# Altium integrated library Analog Devices Clock Generation and Distribution.IntLib: 120 symbols (part 3 of 18)
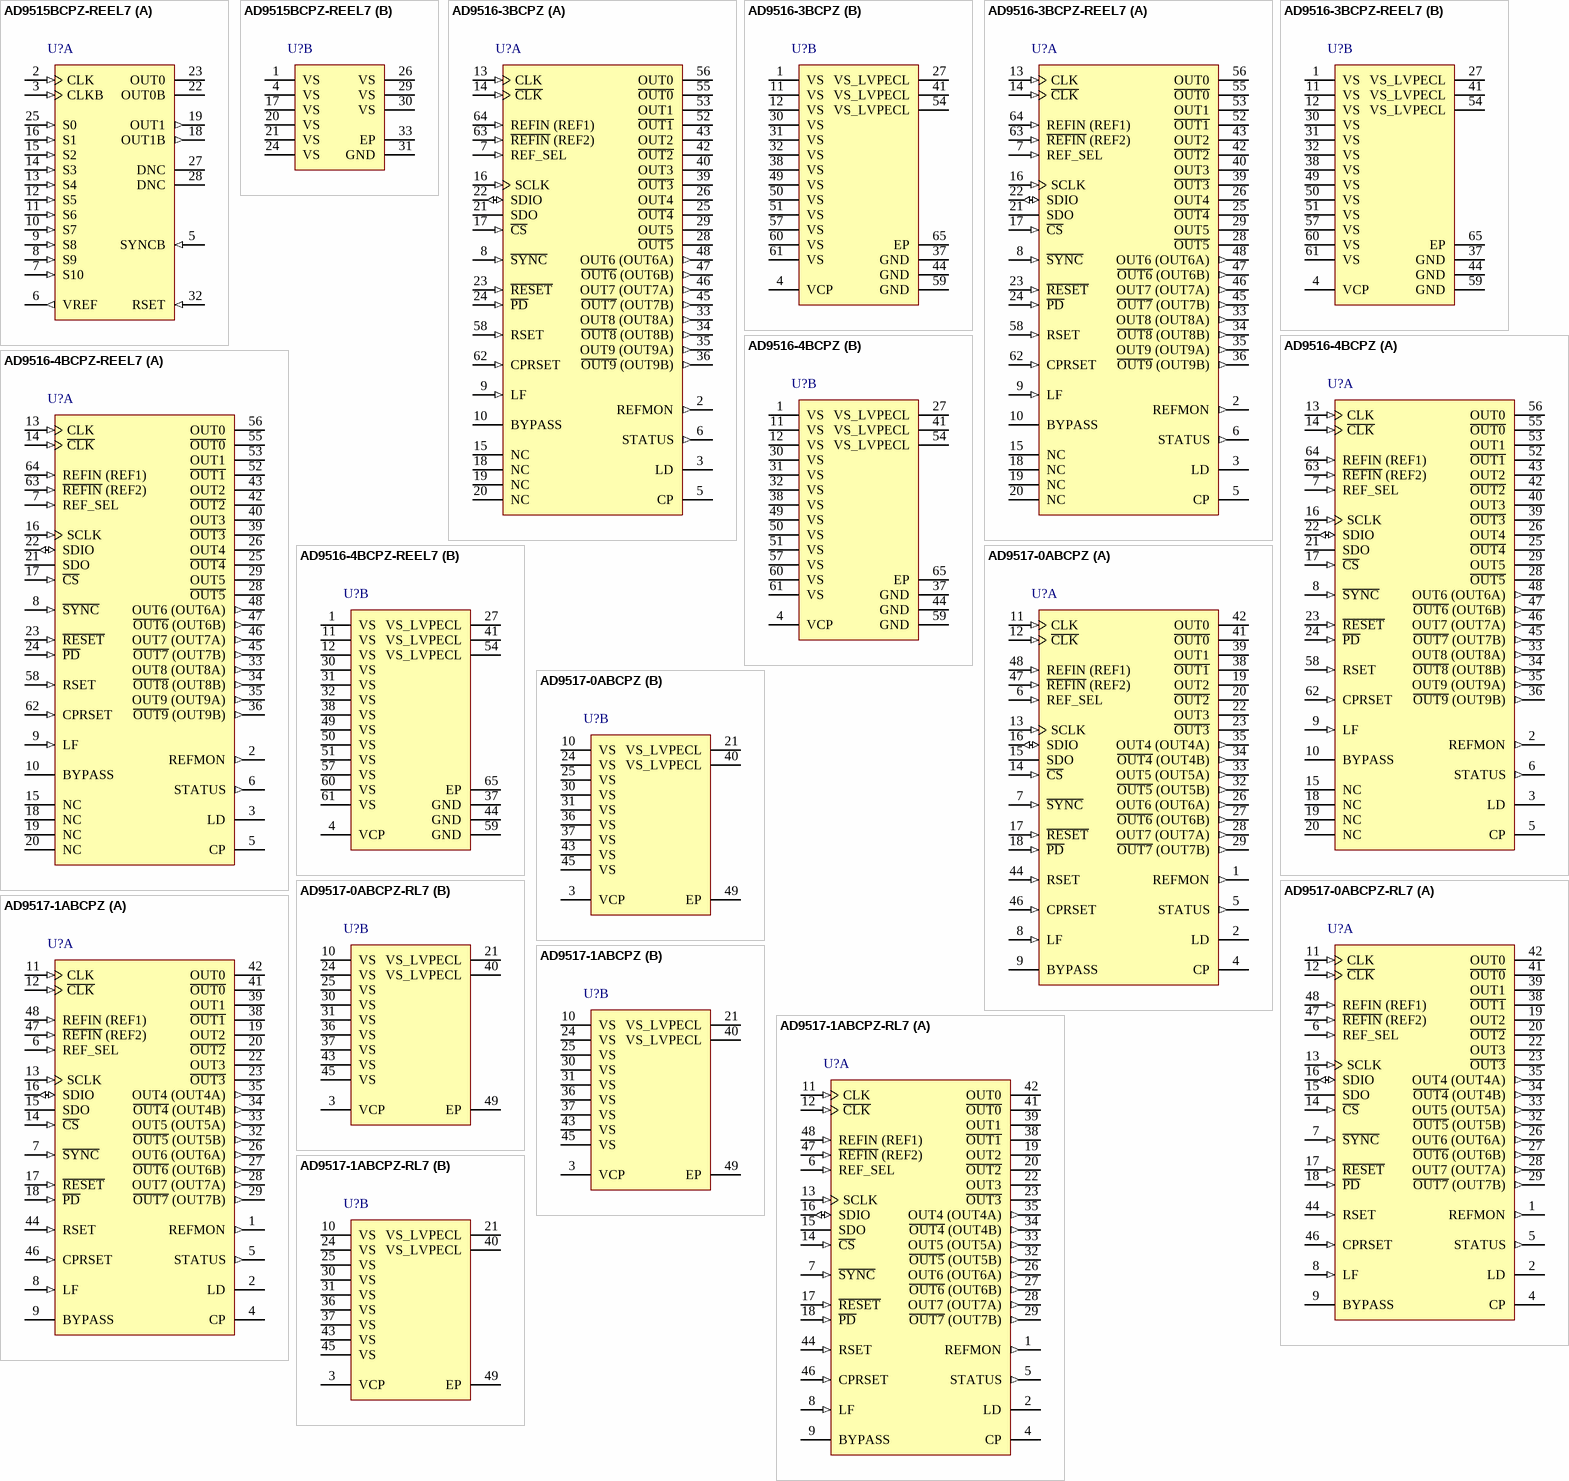
[diagram p14: symbols AD9515BCPZ-REEL7 to AD9517-1ABCPZ-RL7]

## AD9516-4BCPZ-REEL7
designator U?
14 Outputs Clock Generator with Integrated 1.6 GHz VCO, 3.3 V Supply, Industrial, 64-pin QFN (CP-64-4), Reel; Manufacturer: Analog Devices; PartNumber: AD9516-4BCPZ-REEL7; # of Inputs: 2; # of Outputs: 14; Supply Voltage (V): 3.3; I/O Interface: Serial; Max f-out: 1.8 GHz; On-Chip VCO or DCO: Yes; Output Logic: CMOS, LVDS, LVPECL; DatasheetVersion: Rev. B; PackageVersion: 06-12-2012-B, 06/2012; PackageReference: CP-64-4; PackageDescription: 64-Pin Lead Frame Chip Scale Package, Body 9 x 9 mm, Pitch 0.5 mm; Supplier 1: Digi-Key; Supplier Part Number 1: AD9516-4BCPZ-REEL7-ND; Supplier 2: Mouser; Supplier Part Number 2: 584-AD9516-4BCPZR7; Packing: Reel; Mounting Technology: Surface Mount; Code_JEDEC: MO-220-VMMD-4; ComponentLink1Description: Manufacturer URL; ComponentLink1URL: http://www.analog.com/en/index.html; ComponentLink2Description: Datasheet; ComponentLink2URL: http://www.analog.com/static/imported-files/data_sheets/AD9516-4.pdf; ComponentLink3Description: Package Specification; ComponentLink3URL: http://www.analog.com/static/imported-files/packages/PKG_PDF/LFCSP(CP)/CP_64_4.pdf; ComponentLink4Description: Product URL; ComponentLink4URL: http://www.analog.com/en/clock-and-timing/clock-generation-and-distribution/ad9516-4/products/product.html; ComponentLink5Description: Reference Circuit; ComponentLink5URL: http://www.analog.com/en/clock-and-timing/clock-generation-and-distribution/ad9516-4/products/product.html#product-recommendations
footprint ADI-CP-64-4_N (QFN, 64-Leads, Body 9x9mm, Pitch 0.5mm, Thermal Pad 6.2x6.2mm, IPC Medium Density)
footprint ADI-CP-64-4_L (QFN, 64-Leads, Body 9x9mm, Pitch 0.5mm, Thermal Pad 6.2x6.2mm, IPC High Density)
footprint ADI-CP-64-4_M (QFN, 64-Leads, Body 9x9mm, Pitch 0.5mm, Thermal Pad 6.2x6.2mm, IPC Low Density)
part A pins: 2 REFMON (out) "Reference Monitor (Output). This pin has multiple selectable outputs; see Table 54, Register 0x01B.", 3 LD (hiz) "Lock Detect (Output). This pin has multiple selectable outputs; see Table 54, Register 0x1A", 5 CP (hiz) "Charge Pump (Output). Connects to external loop filter.", 6 STATUS (out) "Status (Output). This pin has multiple selectable outputs; see Table 54, Register 0x017. Reference Select. Selects REF1 (low) or REF2 (high). This pin has an internal 30 k ohm pull-down resistor.", 7 REF_SEL (in) "Reference Select. Selects REF1 (low) or REF2 (high). This pin has an internal 30 k ohm pull-down resistor", 8 ~{SYNC} (in) "Manual Synchronizations and Manual Holdover. This pin initiates a manual synchronization and is also used for manual holdover. Active low. This pin has an internal 30 k ohm pull-up resistor", 9 LF (in) "Loop Filter (Input). Connects to VCO control voltage node internally. This pin has 31 pF of internal capacitance to ground, which may influence the loop filter design for large (>500 kHz) loop bandwidths.", 10 BYPASS "This pin is for bypassing the LDO to ground with a capacitor", 13 CLK (in) "Along with C\L\K\, this is the differential input for the clock distribution section.", 14 ~{CLK} (in) "Along with CLK, this is the differential input for the clock distribution section", 15 NC "No Connect. Do not connect to this pin.", 16 SCLK (in) "Serial Control Port Data Clock Signal.", 17 ~{CS} (in) "Serial Control Port Chip Select, Active Low. This pin has an internal 30 k ohm pull-up resistor.", 18 NC "No Connect. Do not connect to this pin.", 19 NC "No Connect. Do not connect to this pin.", 20 NC "No Connect. Do not connect to this pin.", 21 SDO (hiz) "Serial Control Port Unidirectional Serial Data Out.", 22 SDIO (io) "Serial Control Port Bidirectional Serial Data In/Out.", 23 ~{RESET} (in) "Chip Reset, Active Low. This pin has an internal 30 k ohm pull-up resistor.", 24 ~{PD} (in) "Chip Power-Down, Active Low. This pin has an internal 30 k ohm pull-up resistor.", 25 ~{OUT4} (hiz) "LVPECL Output; One Side of a Differential LVPECL Output.", 26 OUT4 (hiz) "LVPECL Output; One Side of a Differential LVPECL Output.", 28 ~{OUT5} (hiz) "LVPECL Output; One Side of a Differential LVPECL Output.", 29 OUT5 (hiz) "LVPECL Output; One Side of a Differential LVPECL Output.", 33 OUT8 (OUT8A) (out) "LVDS/CMOS Output; One Side of a Differential LVDS Output, or a Single-Ended CMOS Output.", 34 ~{OUT8} (OUT8B) (out) "LVDS/CMOS Output; One Side of a Differential LVDS Output, or a Single-Ended CMOS Output.", 35 OUT9 (OUT9A) (out) "LVDS/CMOS Output; One Side of a Differential LVDS Output, or a Single-Ended CMOS Output.", 36 ~{OUT9} (OUT9B) (out) "LVDS/CMOS Output; One Side of a Differential LVDS Output, or a Single-Ended CMOS Output.", 39 ~{OUT3} (hiz) "LVPECL Output; One Side of a Differential LVPECL Output", 40 OUT3 (hiz) "LVPECL Output; One Side of a Differential LVPECL Output", 42 ~{OUT2} (hiz) "LVPECL Output; One Side of a Differential LVPECL Output", 43 OUT2 (hiz) "LVPECL Output; One Side of a Differential LVPECL Output", 45 ~{OUT7} (OUT7B) (out) "LVDS/CMOS Output; One Side of a Differential LVDS Output, or a Single-Ended CMOS Output.", 46 OUT7 (OUT7A) (out) "LVDS/CMOS Output; One Side of a Differential LVDS Output, or a Single-Ended CMOS Output.", 47 ~{OUT6} (OUT6B) (out) "LVDS/CMOS Output; One Side of a Differential LVDS Output, or a Single-Ended CMOS Output.", 48 OUT6 (OUT6A) (out) "LVDS/CMOS Output; One Side of a Differential LVDS Output, or a Single-Ended CMOS Output.", 52 ~{OUT1} (hiz) "LVPECL Output; One Side of a Differential LVPECL Output.", 53 OUT1 (hiz) "LVPECL Output; One Side of a Differential LVPECL Output.", 55 ~{OUT0} (hiz) "LVPECL Output; One Side of a Differential LVPECL Output.", 56 OUT0 (hiz) "LVPECL Output; One Side of a Differential LVPECL Output", 58 RSET (in) "A resistor connected to this pin sets internal bias currents. Nominal value = 4.12 k ohm.", 62 CPRSET (in) "A resistor connected to this pin sets the CP current range. Nominal value = 5.1 k ohm.", 63 ~{REFIN} (REF2) (in) "Along with REFIN, this pin is the differential input for the PLL reference. Alternatively, this pin is a single-ended input for REF2", 64 REFIN (REF1) (in) "Along with R\E\F\I\N\, this pin is the differential input for the PLL reference. Alternatively, this pin is a single-ended input for REF1."
part B pins: 1 VS (power) "3.3 V Power Pins.", 4 VCP (power) "Power Supply for Charge Pump (CP); VS =< VCP =< 5.0 V.", 11 VS (power) "3.3 V Power Pins.", 12 VS (power) "3.3 V Power Pins.", 27 VS_LVPECL (power) "Extended Voltage 2.5 V to 3.3 V LVPECL Power Pins.", 30 VS (power) "3.3 V Power Pins.", 31 VS (power) "3.3 V Power Pins.", 32 VS (power) "3.3 V Power Pins.", 37 GND (power) "Ground Pins, Including External Paddle (EPAD). The external paddle on the bottom of the package must be connected to ground for proper operation", 38 VS (power) "3.3 V Power Pins.", 41 VS_LVPECL (power) "Extended Voltage 2.5 V to 3.3 V LVPECL Power Pins.", 44 GND (power) "Ground Pins, Including External Paddle (EPAD). The external paddle on the bottom of the package must be connected to ground for proper operation", 49 VS (power) "3.3 V Power Pins.", 50 VS (power) "3.3 V Power Pins.", 51 VS (power) "3.3 V Power Pins.", 54 VS_LVPECL (power) "Extended Voltage 2.5 V to 3.3 V LVPECL Power Pins.", 57 VS (power) "3.3 V Power Pins.", 59 GND (power) "Ground Pins, Including External Paddle (EPAD). The external paddle on the bottom of the package must be connected to ground for proper operation", 60 VS (power) "3.3 V Power Pins.", 61 VS (power) "3.3 V Power Pins.", 65 EP (power) "Ground Pins, Including External Paddle (EPAD). The external paddle on the bottom of the package must be connected to ground for proper operation."

## AD9517-0ABCPZ
designator U?
12 Outputs Clock Generator with Integrated 2.8 GHz VCO, 3.3 V Supply, Industrial, 48-pin QFN (CP-48-8), Tray; Manufacturer: Analog Devices; PartNumber: AD9517-0ABCPZ; # of Inputs: 2; # of Outputs: 12; Supply Voltage (V): 3.3; I/O Interface: Serial; Max f-out: 2.95 GHz; On-Chip VCO or DCO: Yes; Output Logic: CMOS, LVDS, LVPECL; DatasheetVersion: Rev. D; PackageVersion: 06-06-2012-C, 06/2012; PackageReference: CP-48-8; PackageDescription: 48-Pin Lead Frame Chip Scale Package, Body 7 x 7 mm, Pitch 0.5 mm; Supplier 1: Digi-Key; Supplier Part Number 1: AD9517-0ABCPZ-ND; Supplier 2: Mouser; Supplier Part Number 2: 584-AD9517-0ABCPZ; Packing: Tray; Mounting Technology: Surface Mount; Code_JEDEC: MO-220-VKKD-2; ComponentLink1Description: Manufacturer URL; ComponentLink1URL: http://www.analog.com/en/index.html; ComponentLink2Description: Datasheet; ComponentLink2URL: http://www.analog.com/static/imported-files/data_sheets/AD9517-0.pdf; ComponentLink3Description: Package Specification; ComponentLink3URL: http://www.analog.com/static/imported-files/packages/PKG_PDF/LFCSP(CP)/CP_48_8.pdf; ComponentLink4Description: Product URL; ComponentLink4URL: http://www.analog.com/en/clock-and-timing/clock-generation-and-distribution/ad9517-0/products/product.html
footprint ADI-CP-48-8_N (QFN, 48-Leads, Body 7x7mm, Pitch 0.5mm, Thermal Pad 5.5x5.5mm, IPC Medium Density)
footprint ADI-CP-48-8_L (QFN, 48-Leads, Body 7x7mm, Pitch 0.5mm, Thermal Pad 5.5x5.5mm, IPC High Density)
footprint ADI-CP-48-8_M (QFN, 48-Leads, Body 7x7mm, Pitch 0.5mm, Thermal Pad 5.5x5.5mm, IPC Low Density)
part A pins: 1 REFMON (out) "Reference Monitor (Output). This pin has multiple selectable outputs; see Table 54, Register 0x01B.", 2 LD (hiz) "Lock Detect (Output). This pin has multiple selectable outputs; see Table 54, Register 0x01A.", 4 CP (hiz) "Charge Pump (Output). Connects to external loop filter.", 5 STATUS (out) "Status (Output). This pin has multiple selectable outputs; see Table 54, Register 0x017.", 6 REF_SEL (in) "Reference Select. Selects REF1 (low) or REF2 (high). This pin has an internal 30 K ohm pull-down resistor", 7 ~{SYNC} (in) "Manual Synchronizations and Manual Holdover. This pin initiates a manual synchronization and is also used for manual holdover. Active low. This pin has an internal 30 K ohm pull-up resistor.", 8 LF (in) "Loop Filter (Input). Connects to VCO control voltage node internally. This pin has 31 pF of internal capacitance to ground, which may influence the loop filter design for large loop bandwidths.", 9 BYPASS "This pin is for bypassing the LDO to ground with a capacitor.", 11 CLK (in) "Along with C\L\K\, this is the self-biased differential input for the clock distribution section. This pin can be left floating if internal VCO is used.", 12 ~{CLK} (in) "Along with CLK, this is the self-biased differential input for the clock distribution section. This pin can be left floating if internal VCO is used.", 13 SCLK (in) "Serial Control Port Data Clock Signal.", 14 ~{CS} (in) "Serial Control Port Chip Select; Active Low. This pin has an internal 30 K ohm pull-up resistor.", 15 SDO (hiz) "Serial Control Port. Unidirectional serial data output.", 16 SDIO (io) "Serial Control Port. Bidirectional serial data input/output and unidirectional serial data input.", 17 ~{RESET} (in) "Chip Reset, Active Low. This pin has an internal 30 K ohm pull-up resistor.", 18 ~{PD} (in) "Chip Power Down, Active Low. This pin has an internal 30 K ohm pull-up resistor.", 19 OUT2 (hiz) "LVPECL Output; One Side of a Differential LVPECL Output.", 20 ~{OUT2} (hiz) "LVPECL Output; One Side of a Differential LVPECL Output.", 22 OUT3 (hiz) "LVPECL Output; One Side of a Differential LVPECL Output.", 23 ~{OUT3} (hiz) "LVPECL Output; One Side of a Differential LVPECL Output.", 26 OUT6 (OUT6A) (out) "LVDS/CMOS Output; One Side of a Differential LVDS Output or a Single-Ended CMOS Output.", 27 ~{OUT6} (OUT6B) (out) "LVDS/CMOS Output; One Side of a Differential LVDS Output or a Single-Ended CMOS Output.", 28 OUT7 (OUT7A) (out) "LVDS/CMOS Output; One Side of a Differential LVDS Output or a Single-Ended CMOS Output.", 29 ~{OUT7} (OUT7B) (out) "LVDS/CMOS Output; One Side of a Differential LVDS Output or a Single-Ended CMOS Output.", 32 ~{OUT5} (OUT5B) (out) "LVDS/CMOS Output; One Side of a Differential LVDS Output or a Single-Ended CMOS Output.", 33 OUT5 (OUT5A) (out) "LVDS/CMOS Output; One Side of a Differential LVDS Output or a Single-Ended CMOS Output.", 34 ~{OUT4} (OUT4B) (out) "LVDS/CMOS Output; One Side of a Differential LVDS Output or a Single-Ended CMOS Output.", 35 OUT4 (OUT4A) (out) "LVDS/CMOS Output; One Side of a Differential LVDS Output or a Single-Ended CMOS Output.", 38 ~{OUT1} (hiz) "LVPECL Output; One Side of a Differential LVPECL Output.", 39 OUT1 (hiz) "LVPECL Output; One Side of a Differential LVPECL Output.", 41 ~{OUT0} (hiz) "LVPECL Output; One Side of a Differential LVPECL Output.", 42 OUT0 (hiz) "LVPECL Output; One Side of a Differential LVPECL Output.", 44 RSET (in) "Resistor connected here sets internal bias currents. Nominal value = 4.12 K ohm.", 46 CPRSET (in) "Resistor connected here sets CP current range. Nominal value = 5.1 K ohm.", 47 ~{REFIN} (REF2) (in) "Along with REFIN, this is the self-biased differential input for the PLL reference. Alternatively, this pin is a single-ended input for REF2.", 48 REFIN (REF1) (in) "Along with R\E\F\I\N\, this is the self-biased differential input for the PLL reference. Alternatively, this pin is a single-ended input for REF1."
part B pins: 3 VCP (power) "Power Supply for Charge Pump (CP); VS =< VCP =< 5.0 V. This pin is usually 3.3 V for most applications; but if a 5 V external VCXO is used, this pin should be 5 V.", 10 VS (power) "3.3 V Power Pins.", 21 VS_LVPECL (power) "Extended Voltage 2.5 V to 3.3 V LVPECL Power Pins.", 24 VS (power) "3.3 V Power Pins.", 25 VS (power) "3.3 V Power Pins.", 30 VS (power) "3.3 V Power Pins.", 31 VS (power) "3.3 V Power Pins.", 36 VS (power) "3.3 V Power Pins.", 37 VS (power) "3.3 V Power Pins.", 40 VS_LVPECL (power) "Extended Voltage 2.5 V to 3.3 V LVPECL Power Pins.", 43 VS (power) "3.3 V Power Pins.", 45 VS (power) "3.3 V Power Pins.", 49 EP (power) "Ground. The external paddle on the bottom of the package must be connected to ground for proper operation."

## AD9517-0ABCPZ-RL7
designator U?
12 Outputs Clock Generator with Integrated 2.8 GHz VCO, 3.3 V Supply, Industrial, 48-pin QFN (CP-48-8), Reel; Manufacturer: Analog Devices; PartNumber: AD9517-0ABCPZ-RL7; # of Inputs: 2; # of Outputs: 12; Supply Voltage (V): 3.3; I/O Interface: Serial; Max f-out: 2.95 GHz; On-Chip VCO or DCO: Yes; Output Logic: CMOS, LVDS, LVPECL; DatasheetVersion: Rev. D; PackageVersion: 06-06-2012-C, 06/2012; PackageReference: CP-48-8; PackageDescription: 48-Pin Lead Frame Chip Scale Package, Body 7 x 7 mm, Pitch 0.5 mm; Supplier 1: Digi-Key; Supplier Part Number 1: AD9517-0ABCPZ-RL7-ND; Supplier 2: Mouser; Supplier Part Number 2: 584-AD9517-0ABCPZ-R7; Packing: Reel; Mounting Technology: Surface Mount; Code_JEDEC: MO-220-VKKD-2; ComponentLink1Description: Manufacturer URL; ComponentLink1URL: http://www.analog.com/en/index.html; ComponentLink2Description: Datasheet; ComponentLink2URL: http://www.analog.com/static/imported-files/data_sheets/AD9517-0.pdf; ComponentLink3Description: Package Specification; ComponentLink3URL: http://www.analog.com/static/imported-files/packages/PKG_PDF/LFCSP(CP)/CP_48_8.pdf; ComponentLink4Description: Product URL; ComponentLink4URL: http://www.analog.com/en/clock-and-timing/clock-generation-and-distribution/ad9517-0/products/product.html
footprint ADI-CP-48-8_N (QFN, 48-Leads, Body 7x7mm, Pitch 0.5mm, Thermal Pad 5.5x5.5mm, IPC Medium Density)
footprint ADI-CP-48-8_L (QFN, 48-Leads, Body 7x7mm, Pitch 0.5mm, Thermal Pad 5.5x5.5mm, IPC High Density)
footprint ADI-CP-48-8_M (QFN, 48-Leads, Body 7x7mm, Pitch 0.5mm, Thermal Pad 5.5x5.5mm, IPC Low Density)
part A pins: 1 REFMON (out) "Reference Monitor (Output). This pin has multiple selectable outputs; see Table 54, Register 0x01B.", 2 LD (hiz) "Lock Detect (Output). This pin has multiple selectable outputs; see Table 54, Register 0x01A.", 4 CP (hiz) "Charge Pump (Output). Connects to external loop filter.", 5 STATUS (out) "Status (Output). This pin has multiple selectable outputs; see Table 54, Register 0x017.", 6 REF_SEL (in) "Reference Select. Selects REF1 (low) or REF2 (high). This pin has an internal 30 K ohm pull-down resistor", 7 ~{SYNC} (in) "Manual Synchronizations and Manual Holdover. This pin initiates a manual synchronization and is also used for manual holdover. Active low. This pin has an internal 30 K ohm pull-up resistor.", 8 LF (in) "Loop Filter (Input). Connects to VCO control voltage node internally. This pin has 31 pF of internal capacitance to ground, which may influence the loop filter design for large loop bandwidths.", 9 BYPASS "This pin is for bypassing the LDO to ground with a capacitor.", 11 CLK (in) "Along with C\L\K\, this is the self-biased differential input for the clock distribution section. This pin can be left floating if internal VCO is used.", 12 ~{CLK} (in) "Along with CLK, this is the self-biased differential input for the clock distribution section. This pin can be left floating if internal VCO is used.", 13 SCLK (in) "Serial Control Port Data Clock Signal.", 14 ~{CS} (in) "Serial Control Port Chip Select; Active Low. This pin has an internal 30 K ohm pull-up resistor.", 15 SDO (hiz) "Serial Control Port. Unidirectional serial data output.", 16 SDIO (io) "Serial Control Port. Bidirectional serial data input/output and unidirectional serial data input.", 17 ~{RESET} (in) "Chip Reset, Active Low. This pin has an internal 30 K ohm pull-up resistor.", 18 ~{PD} (in) "Chip Power Down, Active Low. This pin has an internal 30 K ohm pull-up resistor.", 19 OUT2 (hiz) "LVPECL Output; One Side of a Differential LVPECL Output.", 20 ~{OUT2} (hiz) "LVPECL Output; One Side of a Differential LVPECL Output.", 22 OUT3 (hiz) "LVPECL Output; One Side of a Differential LVPECL Output.", 23 ~{OUT3} (hiz) "LVPECL Output; One Side of a Differential LVPECL Output.", 26 OUT6 (OUT6A) (out) "LVDS/CMOS Output; One Side of a Differential LVDS Output or a Single-Ended CMOS Output.", 27 ~{OUT6} (OUT6B) (out) "LVDS/CMOS Output; One Side of a Differential LVDS Output or a Single-Ended CMOS Output.", 28 OUT7 (OUT7A) (out) "LVDS/CMOS Output; One Side of a Differential LVDS Output or a Single-Ended CMOS Output.", 29 ~{OUT7} (OUT7B) (out) "LVDS/CMOS Output; One Side of a Differential LVDS Output or a Single-Ended CMOS Output.", 32 ~{OUT5} (OUT5B) (out) "LVDS/CMOS Output; One Side of a Differential LVDS Output or a Single-Ended CMOS Output.", 33 OUT5 (OUT5A) (out) "LVDS/CMOS Output; One Side of a Differential LVDS Output or a Single-Ended CMOS Output.", 34 ~{OUT4} (OUT4B) (out) "LVDS/CMOS Output; One Side of a Differential LVDS Output or a Single-Ended CMOS Output.", 35 OUT4 (OUT4A) (out) "LVDS/CMOS Output; One Side of a Differential LVDS Output or a Single-Ended CMOS Output.", 38 ~{OUT1} (hiz) "LVPECL Output; One Side of a Differential LVPECL Output.", 39 OUT1 (hiz) "LVPECL Output; One Side of a Differential LVPECL Output.", 41 ~{OUT0} (hiz) "LVPECL Output; One Side of a Differential LVPECL Output.", 42 OUT0 (hiz) "LVPECL Output; One Side of a Differential LVPECL Output.", 44 RSET (in) "Resistor connected here sets internal bias currents. Nominal value = 4.12 K ohm.", 46 CPRSET (in) "Resistor connected here sets CP current range. Nominal value = 5.1 K ohm.", 47 ~{REFIN} (REF2) (in) "Along with REFIN, this is the self-biased differential input for the PLL reference. Alternatively, this pin is a single-ended input for REF2.", 48 REFIN (REF1) (in) "Along with R\E\F\I\N\, this is the self-biased differential input for the PLL reference. Alternatively, this pin is a single-ended input for REF1."
part B pins: 3 VCP (power) "Power Supply for Charge Pump (CP); VS =< VCP =< 5.0 V. This pin is usually 3.3 V for most applications; but if a 5 V external VCXO is used, this pin should be 5 V.", 10 VS (power) "3.3 V Power Pins.", 21 VS_LVPECL (power) "Extended Voltage 2.5 V to 3.3 V LVPECL Power Pins.", 24 VS (power) "3.3 V Power Pins.", 25 VS (power) "3.3 V Power Pins.", 30 VS (power) "3.3 V Power Pins.", 31 VS (power) "3.3 V Power Pins.", 36 VS (power) "3.3 V Power Pins.", 37 VS (power) "3.3 V Power Pins.", 40 VS_LVPECL (power) "Extended Voltage 2.5 V to 3.3 V LVPECL Power Pins.", 43 VS (power) "3.3 V Power Pins.", 45 VS (power) "3.3 V Power Pins.", 49 EP (power) "Ground. The external paddle on the bottom of the package must be connected to ground for proper operation."

## AD9517-1ABCPZ
designator U?
12 Outputs Clock Generator with Integrated 2.5 GHz VCO, 3.3 V Supply, Industrial, 48-pin QFN (CP-48-8), Tray; Manufacturer: Analog Devices; PartNumber: AD9517-1ABCPZ; # of Inputs: 2; # of Outputs: 12; Supply Voltage (V): 3.3; I/O Interface: Serial; Max f-out: 2.65 GHz; On-Chip VCO or DCO: Yes; Output Logic: CMOS, LVDS, LVPECL; DatasheetVersion: Rev. D; PackageVersion: 06-06-2012-C, 06/2012; PackageReference: CP-48-8; PackageDescription: 48-Pin Lead Frame Chip Scale Package, Body 7 x 7 mm, Pitch 0.5 mm; Supplier 1: Digi-Key; Supplier Part Number 1: AD9517-1ABCPZ-ND; Supplier 2: Newark; Supplier Part Number 2: 51R0762; Supplier 3: Mouser; Supplier Part Number 3: 584-AD9517-1ABCPZ; Packing: Tray; Mounting Technology: Surface Mount; Code_JEDEC: MO-220-VKKD-2; ComponentLink1Description: Manufacturer URL; ComponentLink1URL: http://www.analog.com/en/index.html; ComponentLink2Description: Datasheet; ComponentLink2URL: http://www.analog.com/static/imported-files/data_sheets/AD9517-1.pdf; ComponentLink3Description: Package Specification; ComponentLink3URL: http://www.analog.com/static/imported-files/packages/PKG_PDF/LFCSP(CP)/CP_48_8.pdf; ComponentLink4Description: Product URL; ComponentLink4URL: http://www.analog.com/en/clock-and-timing/clock-generation-and-distribution/ad9517-1/products/product.html
footprint ADI-CP-48-8_N (QFN, 48-Leads, Body 7x7mm, Pitch 0.5mm, Thermal Pad 5.5x5.5mm, IPC Medium Density)
footprint ADI-CP-48-8_L (QFN, 48-Leads, Body 7x7mm, Pitch 0.5mm, Thermal Pad 5.5x5.5mm, IPC High Density)
footprint ADI-CP-48-8_M (QFN, 48-Leads, Body 7x7mm, Pitch 0.5mm, Thermal Pad 5.5x5.5mm, IPC Low Density)
part A pins: 1 REFMON (out) "Reference Monitor (Output). This pin has multiple selectable outputs; see Table 54, Register 0x01B.", 2 LD (hiz) "Lock Detect (Output). This pin has multiple selectable outputs; see Table 54, Register 0x01A.", 4 CP (hiz) "Charge Pump (Output). Connects to external loop filter.", 5 STATUS (out) "Status (Output). This pin has multiple selectable outputs; see Table 54, Register 0x017.", 6 REF_SEL (in) "Reference Select. Selects REF1 (low) or REF2 (high). This pin has an internal 30 k ohm pull-down resistor.", 7 ~{SYNC} (in) "Manual Synchronizations and Manual Holdover. This pin initiates a manual synchronization and is used for manual holdover. Active low. This pin has an internal 30 k ohm pull-up resistor.", 8 LF (in) "Loop Filter (Input). Connects to VCO control voltage node internally. This pin has 31 pF of internal capacitance to ground, which may influence the loop filter design for large loop bandwidths.", 9 BYPASS "This pin is for bypassing the LDO to ground with a capacitor.", 11 CLK (in) "Along with C\L\K\, this is the self-biased differential input for the clock distribution section. This pin can be left floating if internal VCO is used.", 12 ~{CLK} (in) "Along with CLK, this is the self-biased differential input for the clock distribution section. This pin can be left floating if internal VCO is used.", 13 SCLK (in) "Serial Control Port Data Clock Signal.", 14 ~{CS} (in) "Serial Control Port Chip Select; Active Low. This pin has an internal 30 k ohm pull-up resistor.", 15 SDO (hiz) "Serial Control Port. Unidirectional serial data output.", 16 SDIO (io) "Serial Control Port. Bidirectional serial data input/output and unidirectional serial data input.", 17 ~{RESET} (in) "Chip Reset, Active Low. This pin has an internal 30 k ohm pull-up resistor.", 18 ~{PD} (in) "Chip Power Down, Active Low. This pin has an internal 30 k ohm pull-up resistor.", 19 OUT2 (hiz) "LVPECL Output; One Side of a Differential LVPECL Output.", 20 ~{OUT2} (hiz) "LVPECL Output; One Side of a Differential LVPECL Output.", 22 OUT3 (hiz) "LVPECL Output; One Side of a Differential LVPECL Output.", 23 ~{OUT3} (hiz) "LVPECL Output; One Side of a Differential LVPECL Output.", 26 OUT6 (OUT6A) (out) "LVDS/CMOS Output; One Side of a Differential LVDS Output or a Single-Ended CMOS Output.", 27 ~{OUT6} (OUT6B) (out) "LVDS/CMOS Output; One Side of a Differential LVDS Output or a Single-Ended CMOS Output.", 28 OUT7 (OUT7A) (out) "LVDS/CMOS Output; One Side of a Differential LVDS Output or a Single-Ended CMOS Output.", 29 ~{OUT7} (OUT7B) (out) "LVDS/CMOS Output; One Side of a Differential LVDS Output or a Single-Ended CMOS Output.", 32 ~{OUT5} (OUT5B) (out) "LVDS/CMOS Output; One Side of a Differential LVDS Output or a Single-Ended CMOS Output.", 33 OUT5 (OUT5A) (out) "LVDS/CMOS Output; One Side of a Differential LVDS Output or a Single-Ended CMOS Output.", 34 ~{OUT4} (OUT4B) (out) "LVDS/CMOS Output; One Side of a Differential LVDS Output or a Single-Ended CMOS Output.", 35 OUT4 (OUT4A) (out) "LVDS/CMOS Output; One Side of a Differential LVDS Output or a Single-Ended CMOS Output.", 38 ~{OUT1} (hiz) "LVPECL Output; One Side of a Differential LVPECL Output.", 39 OUT1 (hiz) "LVPECL Output; One Side of a Differential LVPECL Output.", 41 ~{OUT0} (hiz) "LVPECL Output; One Side of a Differential LVPECL Output.", 42 OUT0 (hiz) "LVPECL Output; One Side of a Differential LVPECL Output.", 44 RSET (in) "Resistor connected here sets internal bias currents. Nominal value = 4.12 k ohm.", 46 CPRSET (in) "Resistor connected here sets CP current range. Nominal value = 5.1 k ohm.", 47 ~{REFIN} (REF2) (in) "Along with REFIN, this is the self-biased differential input for the PLL reference. Alternatively, this pin is a single-ended input for REF2.", 48 REFIN (REF1) (in) "Along with R\E\F\I\N\, this is the self-biased differential input for the PLL reference. Alternatively, this pin is a single-ended input for REF1."
part B pins: 3 VCP (power) "Power Supply for Charge Pump (CP). VS =< VCP =< 5.0 V. This pin is usually 3.3 V for most applications; but if a 5 V external VCXO is used, this pin should be 5 V.", 10 VS (power) "3.3 V Power Pins.", 21 VS_LVPECL (power) "Extended Voltage 2.5 V to 3.3 V LVPECL Power Pins.", 24 VS (power) "3.3 V Power Pins.", 25 VS (power) "3.3 V Power Pins.", 30 VS (power) "3.3 V Power Pins.", 31 VS (power) "3.3 V Power Pins.", 36 VS (power) "3.3 V Power Pins.", 37 VS (power) "3.3 V Power Pins.", 40 VS_LVPECL (power) "Extended Voltage 2.5 V to 3.3 V LVPECL Power Pins.", 43 VS (power) "3.3 V Power Pins.", 45 VS (power) "3.3 V Power Pins.", 49 EP (power) "Ground. The external paddle on the bottom of the package must be connected to ground for proper operation."

## AD9517-1ABCPZ-RL7
designator U?
12 Outputs Clock Generator with Integrated 2.5 GHz VCO, 3.3 V Supply, Industrial, 48-pin QFN (CP-48-8), Reel; Manufacturer: Analog Devices; PartNumber: AD9517-1ABCPZ-RL7; # of Inputs: 2; # of Outputs: 12; Supply Voltage (V): 3.3; I/O Interface: Serial; Max f-out: 2.65 GHz; On-Chip VCO or DCO: Yes; Output Logic: CMOS, LVDS, LVPECL; DatasheetVersion: Rev. D; PackageVersion: 06-06-2012-C, 06/2012; PackageReference: CP-48-8; PackageDescription: 48-Pin Lead Frame Chip Scale Package, Body 7 x 7 mm, Pitch 0.5 mm; Supplier 1: Digi-Key; Supplier Part Number 1: AD9517-1ABCPZ-RL7-ND; Supplier 2: Mouser; Supplier Part Number 2: 584-AD9517-1ABCPZ-R7; Packing: Reel; Mounting Technology: Surface Mount; Code_JEDEC: MO-220-VKKD-2; ComponentLink1Description: Manufacturer URL; ComponentLink1URL: http://www.analog.com/en/index.html; ComponentLink2Description: Datasheet; ComponentLink2URL: http://www.analog.com/static/imported-files/data_sheets/AD9517-1.pdf; ComponentLink3Description: Package Specification; ComponentLink3URL: http://www.analog.com/static/imported-files/packages/PKG_PDF/LFCSP(CP)/CP_48_8.pdf; ComponentLink4Description: Product URL; ComponentLink4URL: http://www.analog.com/en/clock-and-timing/clock-generation-and-distribution/ad9517-1/products/product.html
footprint ADI-CP-48-8_N (QFN, 48-Leads, Body 7x7mm, Pitch 0.5mm, Thermal Pad 5.5x5.5mm, IPC Medium Density)
footprint ADI-CP-48-8_L (QFN, 48-Leads, Body 7x7mm, Pitch 0.5mm, Thermal Pad 5.5x5.5mm, IPC High Density)
footprint ADI-CP-48-8_M (QFN, 48-Leads, Body 7x7mm, Pitch 0.5mm, Thermal Pad 5.5x5.5mm, IPC Low Density)
part A pins: 1 REFMON (out) "Reference Monitor (Output). This pin has multiple selectable outputs; see Table 54, Register 0x01B.", 2 LD (hiz) "Lock Detect (Output). This pin has multiple selectable outputs; see Table 54, Register 0x01A.", 4 CP (hiz) "Charge Pump (Output). Connects to external loop filter.", 5 STATUS (out) "Status (Output). This pin has multiple selectable outputs; see Table 54, Register 0x017.", 6 REF_SEL (in) "Reference Select. Selects REF1 (low) or REF2 (high). This pin has an internal 30 k ohm pull-down resistor.", 7 ~{SYNC} (in) "Manual Synchronizations and Manual Holdover. This pin initiates a manual synchronization and is used for manual holdover. Active low. This pin has an internal 30 k ohm pull-up resistor.", 8 LF (in) "Loop Filter (Input). Connects to VCO control voltage node internally. This pin has 31 pF of internal capacitance to ground, which may influence the loop filter design for large loop bandwidths.", 9 BYPASS "This pin is for bypassing the LDO to ground with a capacitor.", 11 CLK (in) "Along with C\L\K\, this is the self-biased differential input for the clock distribution section. This pin can be left floating if internal VCO is used.", 12 ~{CLK} (in) "Along with CLK, this is the self-biased differential input for the clock distribution section. This pin can be left floating if internal VCO is used.", 13 SCLK (in) "Serial Control Port Data Clock Signal.", 14 ~{CS} (in) "Serial Control Port Chip Select; Active Low. This pin has an internal 30 k ohm pull-up resistor.", 15 SDO (hiz) "Serial Control Port. Unidirectional serial data output.", 16 SDIO (io) "Serial Control Port. Bidirectional serial data input/output and unidirectional serial data input.", 17 ~{RESET} (in) "Chip Reset, Active Low. This pin has an internal 30 k ohm pull-up resistor.", 18 ~{PD} (in) "Chip Power Down, Active Low. This pin has an internal 30 k ohm pull-up resistor.", 19 OUT2 (hiz) "LVPECL Output; One Side of a Differential LVPECL Output.", 20 ~{OUT2} (hiz) "LVPECL Output; One Side of a Differential LVPECL Output.", 22 OUT3 (hiz) "LVPECL Output; One Side of a Differential LVPECL Output.", 23 ~{OUT3} (hiz) "LVPECL Output; One Side of a Differential LVPECL Output.", 26 OUT6 (OUT6A) (out) "LVDS/CMOS Output; One Side of a Differential LVDS Output or a Single-Ended CMOS Output.", 27 ~{OUT6} (OUT6B) (out) "LVDS/CMOS Output; One Side of a Differential LVDS Output or a Single-Ended CMOS Output.", 28 OUT7 (OUT7A) (out) "LVDS/CMOS Output; One Side of a Differential LVDS Output or a Single-Ended CMOS Output.", 29 ~{OUT7} (OUT7B) (out) "LVDS/CMOS Output; One Side of a Differential LVDS Output or a Single-Ended CMOS Output.", 32 ~{OUT5} (OUT5B) (out) "LVDS/CMOS Output; One Side of a Differential LVDS Output or a Single-Ended CMOS Output.", 33 OUT5 (OUT5A) (out) "LVDS/CMOS Output; One Side of a Differential LVDS Output or a Single-Ended CMOS Output.", 34 ~{OUT4} (OUT4B) (out) "LVDS/CMOS Output; One Side of a Differential LVDS Output or a Single-Ended CMOS Output.", 35 OUT4 (OUT4A) (out) "LVDS/CMOS Output; One Side of a Differential LVDS Output or a Single-Ended CMOS Output.", 38 ~{OUT1} (hiz) "LVPECL Output; One Side of a Differential LVPECL Output.", 39 OUT1 (hiz) "LVPECL Output; One Side of a Differential LVPECL Output.", 41 ~{OUT0} (hiz) "LVPECL Output; One Side of a Differential LVPECL Output.", 42 OUT0 (hiz) "LVPECL Output; One Side of a Differential LVPECL Output.", 44 RSET (in) "Resistor connected here sets internal bias currents. Nominal value = 4.12 k ohm.", 46 CPRSET (in) "Resistor connected here sets CP current range. Nominal value = 5.1 k ohm.", 47 ~{REFIN} (REF2) (in) "Along with REFIN, this is the self-biased differential input for the PLL reference. Alternatively, this pin is a single-ended input for REF2.", 48 REFIN (REF1) (in) "Along with R\E\F\I\N\, this is the self-biased differential input for the PLL reference. Alternatively, this pin is a single-ended input for REF1."
part B pins: 3 VCP (power) "Power Supply for Charge Pump (CP). VS =< VCP =< 5.0 V. This pin is usually 3.3 V for most applications; but if a 5 V external VCXO is used, this pin should be 5 V.", 10 VS (power) "3.3 V Power Pins.", 21 VS_LVPECL (power) "Extended Voltage 2.5 V to 3.3 V LVPECL Power Pins.", 24 VS (power) "3.3 V Power Pins.", 25 VS (power) "3.3 V Power Pins.", 30 VS (power) "3.3 V Power Pins.", 31 VS (power) "3.3 V Power Pins.", 36 VS (power) "3.3 V Power Pins.", 37 VS (power) "3.3 V Power Pins.", 40 VS_LVPECL (power) "Extended Voltage 2.5 V to 3.3 V LVPECL Power Pins.", 43 VS (power) "3.3 V Power Pins.", 45 VS (power) "3.3 V Power Pins.", 49 EP (power) "Ground. The external paddle on the bottom of the package must be connected to ground for proper operation."

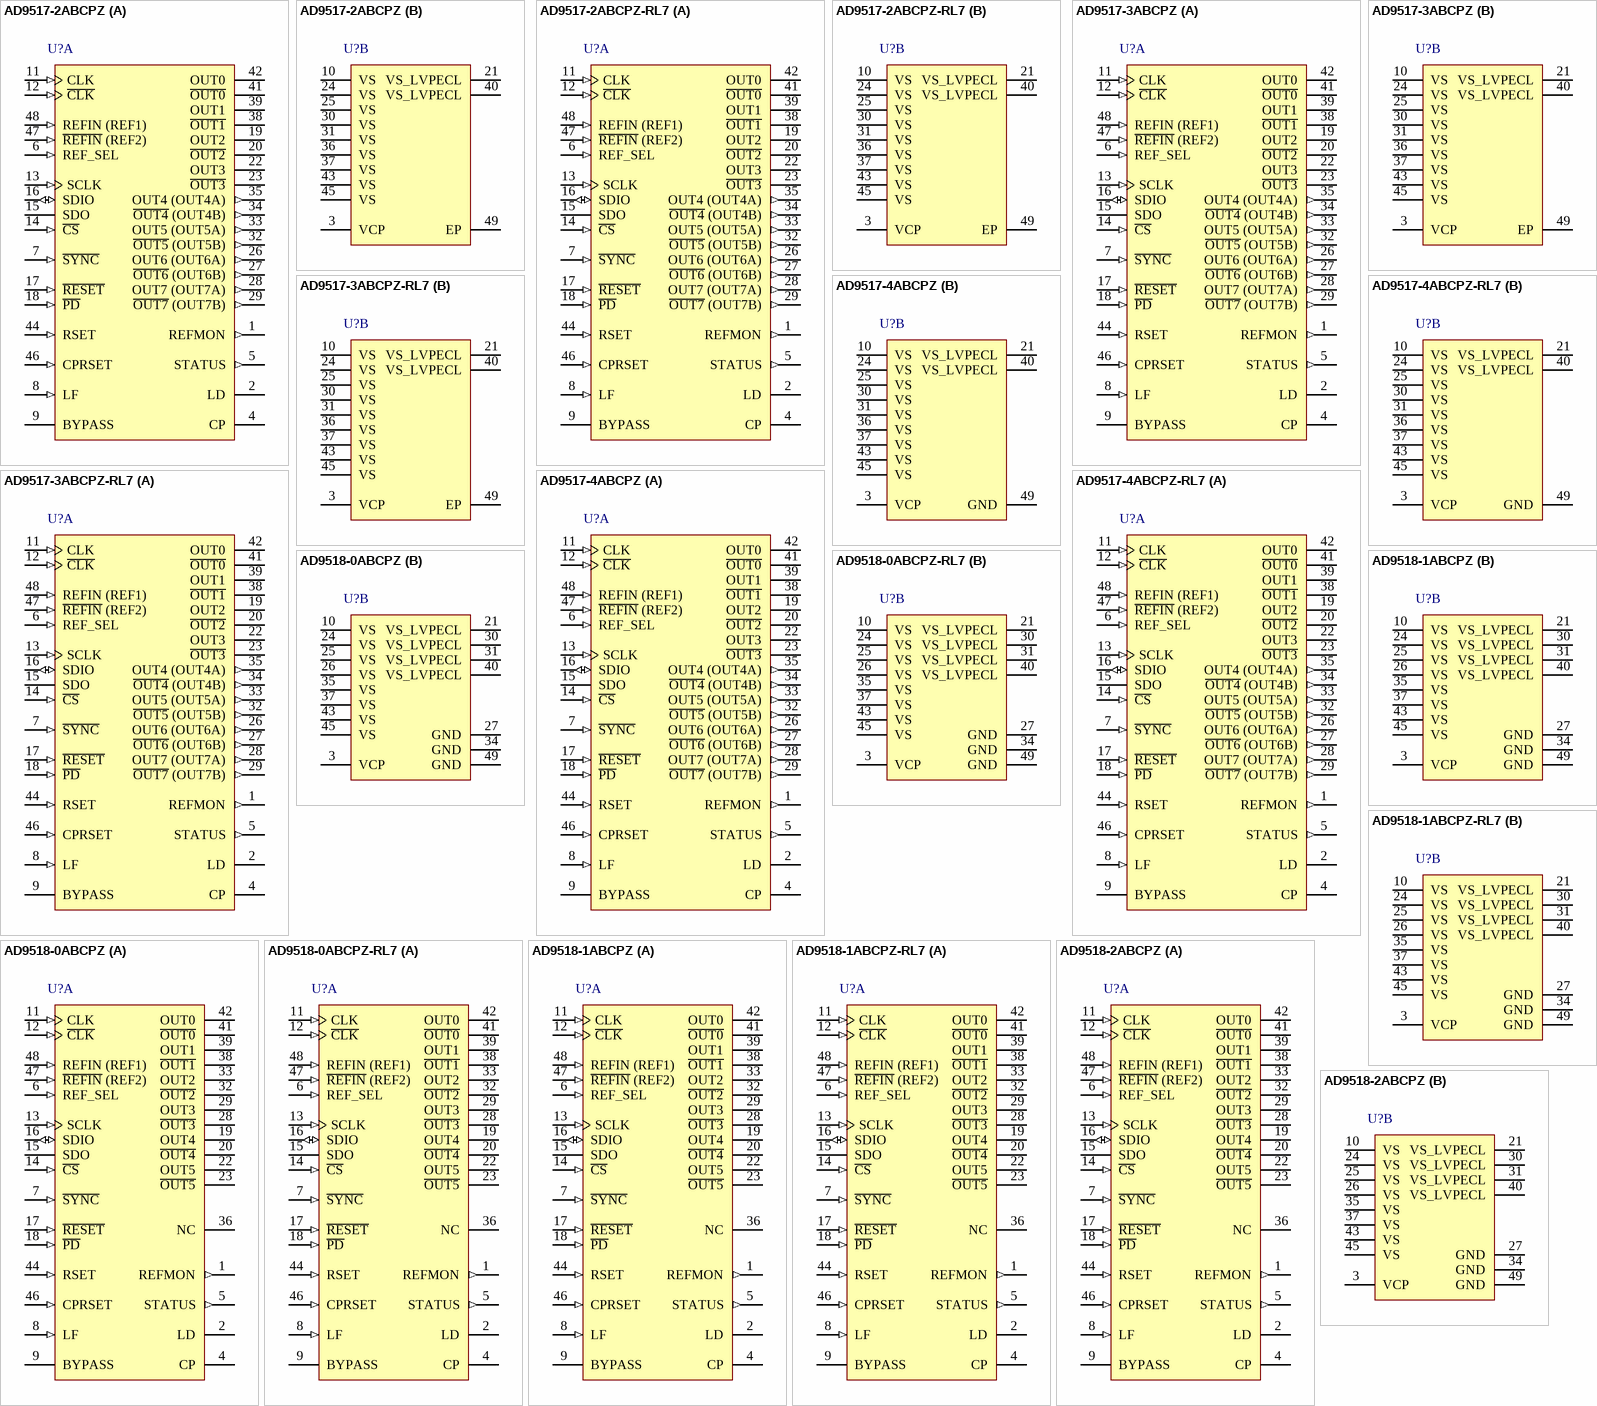
[diagram p2: symbols AD9517-2ABCPZ to AD9518-2ABCPZ]

## AD9517-2ABCPZ
designator U?
12 Outputs Clock Generator with Integrated 2.2 GHz VCO, 3.3 V Supply, Industrial, 48-pin QFN (CP-48-8), Tray; Manufacturer: Analog Devices; PartNumber: AD9517-2ABCPZ; # of Inputs: 2; # of Outputs: 12; Supply Voltage (V): 3.3; I/O Interface: Serial; Max f-out: 2.335 GHz; On-Chip VCO or DCO: Yes; Output Logic: CMOS, LVDS, LVPECL; DatasheetVersion: Rev. D; PackageVersion: 06-06-2012-C, 06/2012; PackageReference: CP-48-8; PackageDescription: 48-Pin Lead Frame Chip Scale Package, Body 7 x 7 mm, Pitch 0.5 mm; Supplier 1: Digi-Key; Supplier Part Number 1: AD9517-2ABCPZ-ND; Supplier 2: Mouser; Supplier Part Number 2: 584-AD9517-2ABCPZ; Packing: Tray; Mounting Technology: Surface Mount; Code_JEDEC: MO-220-VKKD-2; ComponentLink1Description: Manufacturer URL; ComponentLink1URL: http://www.analog.com/en/index.html; ComponentLink2Description: Datasheet; ComponentLink2URL: http://www.analog.com/static/imported-files/data_sheets/AD9517-2.pdf; ComponentLink3Description: Package Specification; ComponentLink3URL: http://www.analog.com/static/imported-files/packages/PKG_PDF/LFCSP(CP)/CP_48_8.pdf; ComponentLink4Description: Product URL; ComponentLink4URL: http://www.analog.com/en/clock-and-timing/clock-generation-and-distribution/ad9517-2/products/product.html
footprint ADI-CP-48-8_N (QFN, 48-Leads, Body 7x7mm, Pitch 0.5mm, Thermal Pad 5.5x5.5mm, IPC Medium Density)
footprint ADI-CP-48-8_L (QFN, 48-Leads, Body 7x7mm, Pitch 0.5mm, Thermal Pad 5.5x5.5mm, IPC High Density)
footprint ADI-CP-48-8_M (QFN, 48-Leads, Body 7x7mm, Pitch 0.5mm, Thermal Pad 5.5x5.5mm, IPC Low Density)
part A pins: 1 REFMON (out) "Reference Monitor (Output). This pin has multiple selectable outputs; see Table 54, Register 0x01B.", 2 LD (hiz) "Lock Detect (Output). This pin has multiple selectable outputs; see Table 54, Register 0x01A.", 4 CP (hiz) "Charge Pump (Output). Connects to external loop filter.", 5 STATUS (out) "Status (Output). This pin has multiple selectable outputs; see Table 54, Register 0x017.", 6 REF_SEL (in) "Reference Select. Selects REF1 (low) or REF2 (high). This pin has an internal 30 k ohm pull-down resistor.", 7 ~{SYNC} (in) "Manual Synchronizations and Manual Holdover. This pin initiates a manual synchronization and is used for manual holdover. Active low. This pin has an internal 30 k ohm pull-up resistor.", 8 LF (in) "Loop Filter (Input). Connects to VCO control voltage node internally. This pin has 31 pF of internal capacitance to ground, which may influence the loop filter design for large loop bandwidths.", 9 BYPASS "This pin is for bypassing the LDO to ground with a capacitor.", 11 CLK (in) "Along with C\L\K\, this is the self-biased differential input for the clock distribution section. This pin can be left floating if internal VCO is used.", 12 ~{CLK} (in) "Along with CLK, this is the self-biased differential input for the clock distribution section. This pin can be left floating if internal VCO is used.", 13 SCLK (in) "Serial Control Port Data Clock Signal.", 14 ~{CS} (in) "Serial Control Port Chip Select; Active Low. This pin has an internal 30 k ohm pull-up resistor.", 15 SDO (hiz) "Serial Control Port. Unidirectional serial data output.", 16 SDIO (io) "Serial Control Port. Bidirectional serial data input/output and unidirectional serial data input.", 17 ~{RESET} (in) "Chip Reset, Active Low. This pin has an internal 30 k ohm pull-up resistor.", 18 ~{PD} (in) "Chip Power Down, Active Low. This pin has an internal 30 k ohm pull-up resistor.", 19 OUT2 (hiz) "LVPECL Output; One Side of a Differential LVPECL Output.", 20 ~{OUT2} (hiz) "LVPECL Output; One Side of a Differential LVPECL Output.", 22 OUT3 (hiz) "LVPECL Output; One Side of a Differential LVPECL Output.", 23 ~{OUT3} (hiz) "LVPECL Output; One Side of a Differential LVPECL Output.", 26 OUT6 (OUT6A) (out) "LVDS/CMOS Output; One Side of a Differential LVDS Output or a Single-Ended CMOS Output.", 27 ~{OUT6} (OUT6B) (out) "LVDS/CMOS Output; One Side of a Differential LVDS Output or a Single-Ended CMOS Output.", 28 OUT7 (OUT7A) (out) "LVDS/CMOS Output; One Side of a Differential LVDS Output or a Single-Ended CMOS Output.", 29 ~{OUT7} (OUT7B) (out) "LVDS/CMOS Output; One Side of a Differential LVDS Output or a Single-Ended CMOS Output.", 32 ~{OUT5} (OUT5B) (out) "LVDS/CMOS Output; One Side of a Differential LVDS Output or a Single-Ended CMOS Output.", 33 OUT5 (OUT5A) (out) "LVDS/CMOS Output; One Side of a Differential LVDS Output or a Single-Ended CMOS Output.", 34 ~{OUT4} (OUT4B) (out) "LVDS/CMOS Output; One Side of a Differential LVDS Output or a Single-Ended CMOS Output.", 35 OUT4 (OUT4A) (out) "LVDS/CMOS Output; One Side of a Differential LVDS Output or a Single-Ended CMOS Output.", 38 ~{OUT1} (hiz) "LVPECL Output; One Side of a Differential LVPECL Output.", 39 OUT1 (hiz) "LVPECL Output; One Side of a Differential LVPECL Output.", 41 ~{OUT0} (hiz) "LVPECL Output; One Side of a Differential LVPECL Output.", 42 OUT0 (hiz) "LVPECL Output; One Side of a Differential LVPECL Output.", 44 RSET (in) "Resistor connected here sets internal bias currents. Nominal value = 4.12 k ohm.", 46 CPRSET (in) "Resistor connected here sets CP current range. Nominal value = 5.1 k ohm.", 47 ~{REFIN} (REF2) (in) "Along with REFIN, this is the self-biased differential input for the PLL reference. Alternatively, this pin is a single-ended input for REF2.", 48 REFIN (REF1) (in) "Along with R\E\F\I\N\, this is the self-biased differential input for the PLL reference. Alternatively, this pin is a single-ended input for REF1."
part B pins: 3 VCP (power) "Power Supply for Charge Pump (CP). VS =< VCP =< 5.0 V. This pin is usually 3.3 V for most applications; but if a 5 V external VCXO is used, this pin should be 5 V.", 10 VS (power) "3.3 V Power Pins.", 21 VS_LVPECL (power) "Extended Voltage 2.5 V to 3.3 V LVPECL Power Pins.", 24 VS (power) "3.3 V Power Pins.", 25 VS (power) "3.3 V Power Pins.", 30 VS (power) "3.3 V Power Pins.", 31 VS (power) "3.3 V Power Pins.", 36 VS (power) "3.3 V Power Pins.", 37 VS (power) "3.3 V Power Pins.", 40 VS_LVPECL (power) "Extended Voltage 2.5 V to 3.3 V LVPECL Power Pins.", 43 VS (power) "3.3 V Power Pins.", 45 VS (power) "3.3 V Power Pins.", 49 EP (power) "Ground. The external paddle on the bottom of the package must be connected to ground for proper operation."

## AD9517-2ABCPZ-RL7
designator U?
12 Outputs Clock Generator with Integrated 2.2 GHz VCO, 3.3 V Supply, Industrial, 48-pin QFN (CP-48-8), Reel; Manufacturer: Analog Devices; PartNumber: AD9517-2ABCPZ-RL7; # of Inputs: 2; # of Outputs: 12; Supply Voltage (V): 3.3; I/O Interface: Serial; Max f-out: 2.335 GHz; On-Chip VCO or DCO: Yes; Output Logic: CMOS, LVDS, LVPECL; DatasheetVersion: Rev. D; PackageVersion: 06-06-2012-C, 06/2012; PackageReference: CP-48-8; PackageDescription: 48-Pin Lead Frame Chip Scale Package, Body 7 x 7 mm, Pitch 0.5 mm; Supplier 1: Digi-Key; Supplier Part Number 1: AD9517-2ABCPZ-RL7-ND; Supplier 2: Mouser; Supplier Part Number 2: 584-AD9517-2ABCPZ-R7; Packing: Reel; Mounting Technology: Surface Mount; Code_JEDEC: MO-220-VKKD-2; ComponentLink1Description: Manufacturer URL; ComponentLink1URL: http://www.analog.com/en/index.html; ComponentLink2Description: Datasheet; ComponentLink2URL: http://www.analog.com/static/imported-files/data_sheets/AD9517-2.pdf; ComponentLink3Description: Package Specification; ComponentLink3URL: http://www.analog.com/static/imported-files/packages/PKG_PDF/LFCSP(CP)/CP_48_8.pdf; ComponentLink4Description: Product URL; ComponentLink4URL: http://www.analog.com/en/clock-and-timing/clock-generation-and-distribution/ad9517-2/products/product.html
footprint ADI-CP-48-8_N (QFN, 48-Leads, Body 7x7mm, Pitch 0.5mm, Thermal Pad 5.5x5.5mm, IPC Medium Density)
footprint ADI-CP-48-8_L (QFN, 48-Leads, Body 7x7mm, Pitch 0.5mm, Thermal Pad 5.5x5.5mm, IPC High Density)
footprint ADI-CP-48-8_M (QFN, 48-Leads, Body 7x7mm, Pitch 0.5mm, Thermal Pad 5.5x5.5mm, IPC Low Density)
part A pins: 1 REFMON (out) "Reference Monitor (Output). This pin has multiple selectable outputs; see Table 54, Register 0x01B.", 2 LD (hiz) "Lock Detect (Output). This pin has multiple selectable outputs; see Table 54, Register 0x01A.", 4 CP (hiz) "Charge Pump (Output). Connects to external loop filter.", 5 STATUS (out) "Status (Output). This pin has multiple selectable outputs; see Table 54, Register 0x017.", 6 REF_SEL (in) "Reference Select. Selects REF1 (low) or REF2 (high). This pin has an internal 30 k ohm pull-down resistor.", 7 ~{SYNC} (in) "Manual Synchronizations and Manual Holdover. This pin initiates a manual synchronization and is used for manual holdover. Active low. This pin has an internal 30 k ohm pull-up resistor.", 8 LF (in) "Loop Filter (Input). Connects to VCO control voltage node internally. This pin has 31 pF of internal capacitance to ground, which may influence the loop filter design for large loop bandwidths.", 9 BYPASS "This pin is for bypassing the LDO to ground with a capacitor.", 11 CLK (in) "Along with C\L\K\, this is the self-biased differential input for the clock distribution section. This pin can be left floating if internal VCO is used.", 12 ~{CLK} (in) "Along with CLK, this is the self-biased differential input for the clock distribution section. This pin can be left floating if internal VCO is used.", 13 SCLK (in) "Serial Control Port Data Clock Signal.", 14 ~{CS} (in) "Serial Control Port Chip Select; Active Low. This pin has an internal 30 k ohm pull-up resistor.", 15 SDO (hiz) "Serial Control Port. Unidirectional serial data output.", 16 SDIO (io) "Serial Control Port. Bidirectional serial data input/output and unidirectional serial data input.", 17 ~{RESET} (in) "Chip Reset, Active Low. This pin has an internal 30 k ohm pull-up resistor.", 18 ~{PD} (in) "Chip Power Down, Active Low. This pin has an internal 30 k ohm pull-up resistor.", 19 OUT2 (hiz) "LVPECL Output; One Side of a Differential LVPECL Output.", 20 ~{OUT2} (hiz) "LVPECL Output; One Side of a Differential LVPECL Output.", 22 OUT3 (hiz) "LVPECL Output; One Side of a Differential LVPECL Output.", 23 ~{OUT3} (hiz) "LVPECL Output; One Side of a Differential LVPECL Output.", 26 OUT6 (OUT6A) (out) "LVDS/CMOS Output; One Side of a Differential LVDS Output or a Single-Ended CMOS Output.", 27 ~{OUT6} (OUT6B) (out) "LVDS/CMOS Output; One Side of a Differential LVDS Output or a Single-Ended CMOS Output.", 28 OUT7 (OUT7A) (out) "LVDS/CMOS Output; One Side of a Differential LVDS Output or a Single-Ended CMOS Output.", 29 ~{OUT7} (OUT7B) (out) "LVDS/CMOS Output; One Side of a Differential LVDS Output or a Single-Ended CMOS Output.", 32 ~{OUT5} (OUT5B) (out) "LVDS/CMOS Output; One Side of a Differential LVDS Output or a Single-Ended CMOS Output.", 33 OUT5 (OUT5A) (out) "LVDS/CMOS Output; One Side of a Differential LVDS Output or a Single-Ended CMOS Output.", 34 ~{OUT4} (OUT4B) (out) "LVDS/CMOS Output; One Side of a Differential LVDS Output or a Single-Ended CMOS Output.", 35 OUT4 (OUT4A) (out) "LVDS/CMOS Output; One Side of a Differential LVDS Output or a Single-Ended CMOS Output.", 38 ~{OUT1} (hiz) "LVPECL Output; One Side of a Differential LVPECL Output.", 39 OUT1 (hiz) "LVPECL Output; One Side of a Differential LVPECL Output.", 41 ~{OUT0} (hiz) "LVPECL Output; One Side of a Differential LVPECL Output.", 42 OUT0 (hiz) "LVPECL Output; One Side of a Differential LVPECL Output.", 44 RSET (in) "Resistor connected here sets internal bias currents. Nominal value = 4.12 k ohm.", 46 CPRSET (in) "Resistor connected here sets CP current range. Nominal value = 5.1 k ohm.", 47 ~{REFIN} (REF2) (in) "Along with REFIN, this is the self-biased differential input for the PLL reference. Alternatively, this pin is a single-ended input for REF2.", 48 REFIN (REF1) (in) "Along with R\E\F\I\N\, this is the self-biased differential input for the PLL reference. Alternatively, this pin is a single-ended input for REF1."
part B pins: 3 VCP (power) "Power Supply for Charge Pump (CP). VS =< VCP =< 5.0 V. This pin is usually 3.3 V for most applications; but if a 5 V external VCXO is used, this pin should be 5 V.", 10 VS (power) "3.3 V Power Pins.", 21 VS_LVPECL (power) "Extended Voltage 2.5 V to 3.3 V LVPECL Power Pins.", 24 VS (power) "3.3 V Power Pins.", 25 VS (power) "3.3 V Power Pins.", 30 VS (power) "3.3 V Power Pins.", 31 VS (power) "3.3 V Power Pins.", 36 VS (power) "3.3 V Power Pins.", 37 VS (power) "3.3 V Power Pins.", 40 VS_LVPECL (power) "Extended Voltage 2.5 V to 3.3 V LVPECL Power Pins.", 43 VS (power) "3.3 V Power Pins.", 45 VS (power) "3.3 V Power Pins.", 49 EP (power) "Ground. The external paddle on the bottom of the package must be connected to ground for proper operation."